# EAGLE library part BGA2850 (library nxp_60)
Silicon Monolithic Microwave Integrated Circuit (MMIC) wideband amplifier with internal matching circuit in a 6-pin SOT363 plastic SMD package. AAL Eindhoven MV+ MK
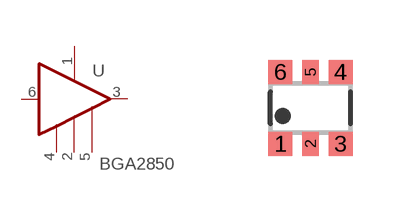
[diagram p44: symbol with the pads of SOT363; footprint SOT363]

Designator prefix U

## BGA2850 (12NC: 9352 900 54115)  [SOT363]
1  VCC  pwr
2  GND2  pwr
3  OUT  out
4  GND1  pwr
5  GND2  pwr
6  -IN  in

## Footprint SOT363 (pad centres in mm)
SOT363 Plastic surface-mounted package; 6 leads JEDEC: -- IEC: -- JEITA: SC-88
smd 0.6 x 0.6: 1 -0.75,-0.9; 3 0.75,-0.9; 4 0.75,0.9; 6 -0.75,0.9
smd 0.4 x 0.6: 2 0,-0.9; 5 0,0.9